# Altium footprint library __ui.PcbLib: 79 footprints (part 1 of 5)
Each footprint in its own frame and in the unit in brackets; x right, y up, seen from the top. Pads: shape width x height; smd on the part's side, far side on the other; paste and mask are expansions set on the pad; w line width, h text height; cw(c..) or ccw(c..) is an arc to the next point about the centre after c.
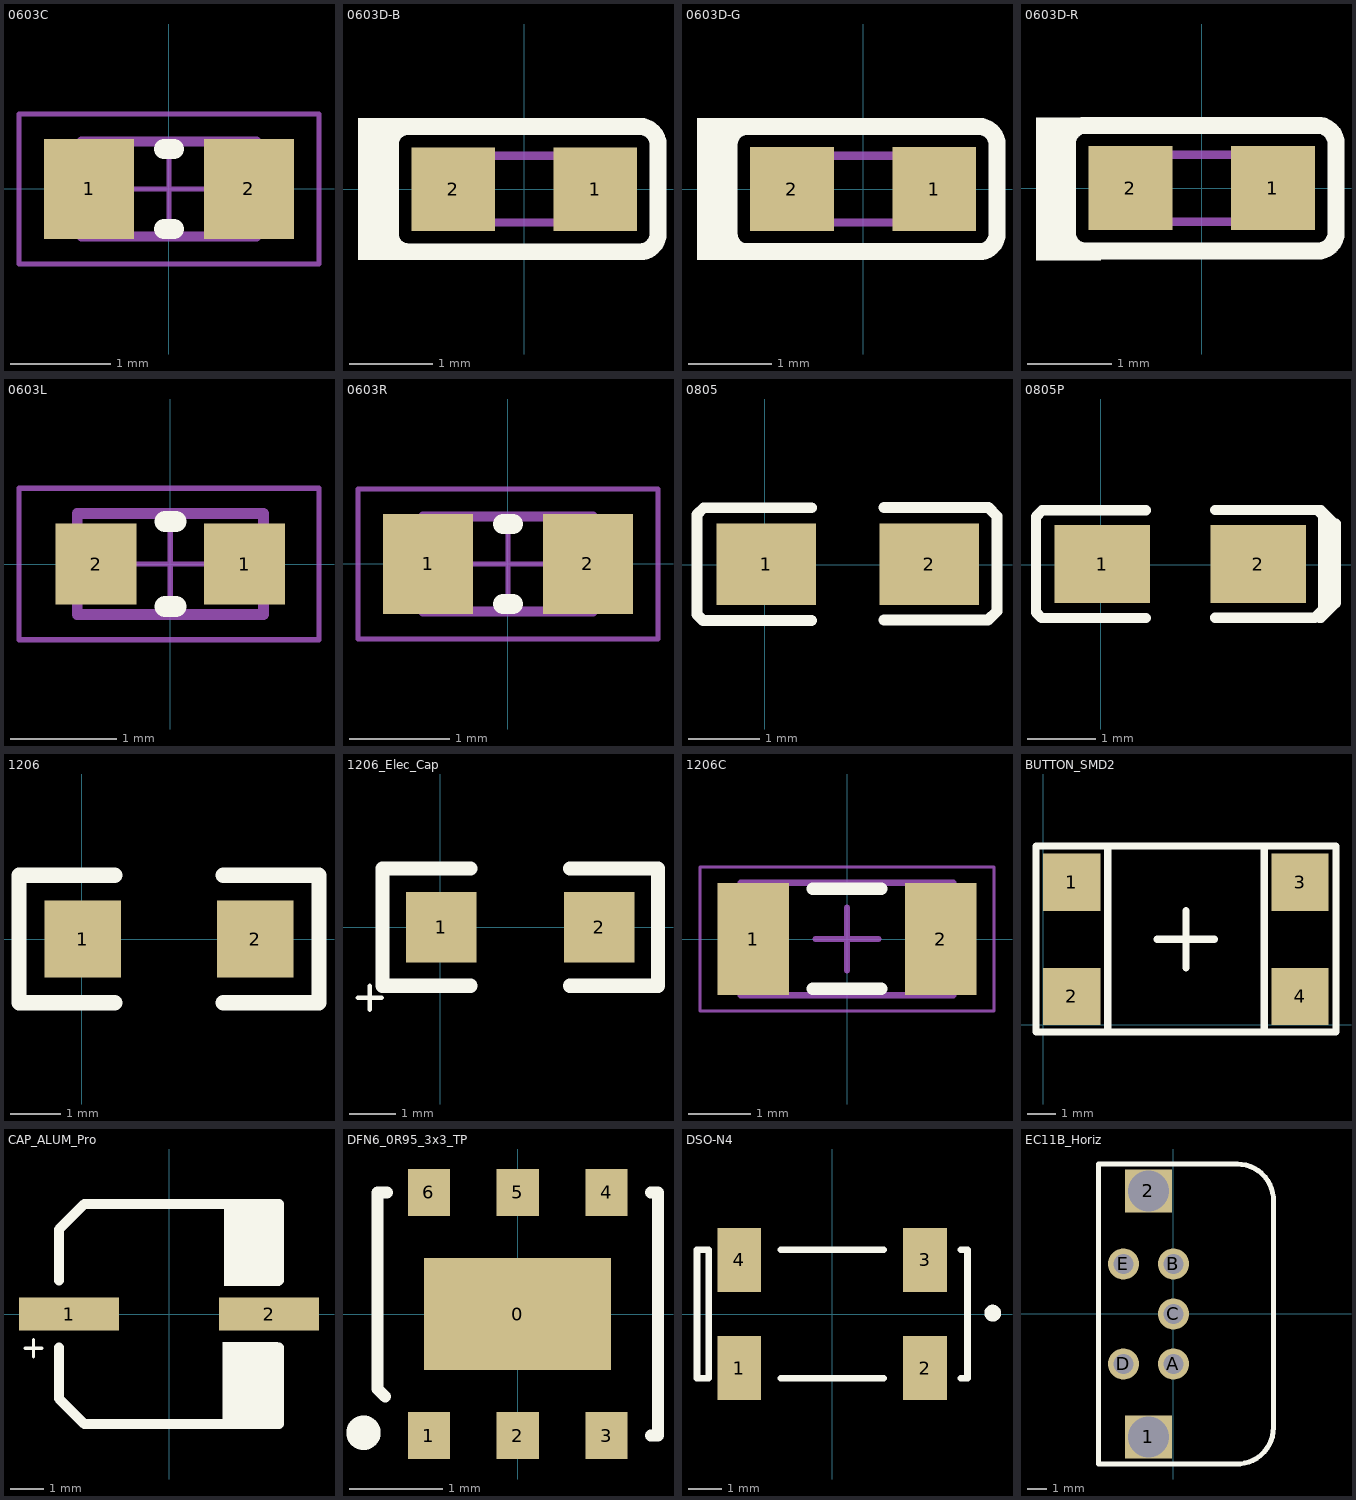
[diagram p0: the footprints below, top view; thin cyan lines are the x and y axes]

## 0603C [mm] "Chip Capacitor, Body 1.6x0.8mm, Height 1.0mm, IPC Medium Density"
height 1
pads (2):
  rect 0.9x1 smd: 1(-0.8,0) 2(0.8,0)
Top Overlay:
  lines w0.2: -0.05,-0.4 0.05,-0.4 ; -0.05,0.4 0.05,0.4
Mechanical 13:
  lines w0.1: -0.875,-0.475 0.875,-0.475 0.875,0.475 -0.875,0.475 -0.875,-0.475
Mechanical 15:
  lines w0.05: -0.475,0 0.475,0 ; 0,-0.475 0,0.475 ; -1.5,-0.75 1.5,-0.75 1.5,0.75 -1.5,0.75 -1.5,-0.75
3D body: height 1, standoff 0, extent 0.525,-0.475 0.875,0.475
3D body: height 1, standoff 0, extent -0.875,-0.475 -0.525,0.475
3D body: height 1, standoff 0, extent -0.525,-0.475 0.525,0.475

## 0603D-B [mm] "LED, SMT, Body 1.6 x 0.8 mm, 0.25mm Thickness"
height 0.25
pads (2):
  rect 1x1 smd paste+0 mask+0: 1(0.85,0) 2(-0.85,0)
Top Overlay:
  rectangle: -1.797,0.667 -1.147,0.852
  rectangle: -1.988,-0.849 -1.531,0.852
  rectangle: -1.797,-0.849 -1.213,-0.684
  lines w0.203: -1.602,-0.533 ccw(c-1.386,-0.533) -1.386,-0.749 1.386,-0.749 ccw(c1.386,-0.533) 1.602,-0.533 1.602,0.533 ccw(c1.386,0.533) 1.386,0.749 -1.386,0.749 ccw(c-1.386,0.533) -1.602,0.533 -1.602,-0.533
Mechanical 7:
  lines w0.1: -0.8,-0.4 -0.8,0.4 0.8,0.4 0.8,-0.4 -0.8,-0.4
3D body: height 0.1, standoff 0, extent -0.8,-0.4 0.8,0.4
3D body: height 0.2, standoff 0.15, extent -0.254,-0.254 0.254,0.254
3D body: height 0.25, standoff 0.1, extent -0.6,-0.4 0.6,0.4

## 0603D-G [mm] "LED, SMT, Body 1.6 x 0.8 mm, 0.25mm Thickness"
height 0.25
pads (2):
  rect 1x1 smd paste+0 mask+0: 1(0.85,0) 2(-0.85,0)
Top Overlay:
  rectangle: -1.794,0.666 -1.144,0.852
  rectangle: -1.985,-0.85 -1.528,0.852
  rectangle: -1.794,-0.85 -1.21,-0.685
  lines w0.203: -1.602,-0.533 ccw(c-1.386,-0.533) -1.386,-0.749 1.386,-0.749 ccw(c1.386,-0.533) 1.602,-0.533 1.602,0.533 ccw(c1.386,0.533) 1.386,0.749 -1.386,0.749 ccw(c-1.386,0.533) -1.602,0.533 -1.602,-0.533
Mechanical 7:
  lines w0.1: -0.8,-0.4 -0.8,0.4 0.8,0.4 0.8,-0.4 -0.8,-0.4
3D body: height 0.1, standoff 0, extent -0.8,-0.4 0.8,0.4
3D body: height 0.2, standoff 0.15, extent -0.254,-0.254 0.254,0.254
3D body: height 0.25, standoff 0.1, extent -0.6,-0.4 0.6,0.4

## 0603D-R [mm] "LED, SMT, Body 1.6 x 0.8 mm, 0.25mm Thickness"
height 0.25
pads (2):
  rect 1x1 smd paste+0 mask+0: 1(0.85,0) 2(-0.85,0)
Top Overlay:
  rectangle: -1.785,0.656 -1.134,0.841
  rectangle: -1.975,-0.861 -1.518,0.841
  rectangle: -1.785,-0.861 -1.2,-0.696
  lines w0.203: -1.602,-0.533 ccw(c-1.386,-0.533) -1.386,-0.749 1.386,-0.749 ccw(c1.386,-0.533) 1.602,-0.533 1.602,0.533 ccw(c1.386,0.533) 1.386,0.749 -1.386,0.749 ccw(c-1.386,0.533) -1.602,0.533 -1.602,-0.533
Mechanical 7:
  lines w0.1: -0.8,-0.4 -0.8,0.4 0.8,0.4 0.8,-0.4 -0.8,-0.4
3D body: height 0.1, standoff 0, extent -0.8,-0.4 0.8,0.4
3D body: height 0.2, standoff 0.15, extent -0.254,-0.254 0.254,0.254
3D body: height 0.25, standoff 0.1, extent -0.6,-0.4 0.6,0.4

## 0603L [mil] "Bead 0603L"
height 39.37
pads (2):
  rect 30x30 smd: 1(27.5,0) 2(-27.5,0)
Top Overlay:
  lines w7.87: -1.97,-15.75 1.97,-15.75 -1.97,-15.74 ; -1.97,15.75 1.97,15.75 -1.97,15.75
Mechanical 13:
  lines w3.94: -34.45,-18.7 34.45,-18.7 34.45,18.7 -34.45,18.7 -34.45,-18.7
Mechanical 15:
  lines w1.97: -18.7,0 18.7,0 ; 0,-18.7 0,18.7 ; -56,-28 -56,28 55,28 55,-28 -56,-28
3D body: height 23.62, standoff 0, extent 20.67,-18.7 34.45,18.7
3D body: height 23.62, standoff 0, extent -34.45,-18.7 -20.67,18.7
3D body: height 23.62, standoff 0, extent -20.67,-18.7 20.67,18.7

## 0603R [mm] "Chip Resistor, Body 1.6x0.8mm, IPC Medium Density"
height 0.6
pads (2):
  rect 0.9x1 smd: 1(-0.8,0) 2(0.8,0)
Top Overlay:
  lines w0.2: -0.05,-0.4 0.05,-0.4 ; -0.05,0.4 0.05,0.4
Mechanical 13:
  lines w0.1: -0.85,-0.475 -0.85,0.475 0.85,0.475 0.85,-0.475 -0.85,-0.475
Mechanical 15:
  lines w0.05: -0.475,0 0.475,0 ; 0,-0.475 0,0.475 ; -1.5,-0.75 -1.5,0.75 1.5,0.75 1.5,-0.75 -1.5,-0.75
3D body: height 0.6, standoff 0, extent 0.581,-0.474 0.85,0.475
3D body: height 0.6, standoff 0, extent -0.58,-0.474 0.581,0.475
3D body: height 0.6, standoff 0, extent -0.849,-0.474 -0.58,0.475

## 0805 [mil]
pads (2):
  rect 55x45 smd: 1(0.86,0.22) 2(90.86,0.22)
Top Overlay:
  lines w6: 25.86,-30.87 -34.13,-30.87 -37.37,-27.63 -37.37,27.63 -33.68,31.32 25.86,31.32 ; 65.86,-30.68 123.44,-30.68 128.33,-25.79 128.33,26.68 123.55,31.46 65.86,31.46

## 0805P [mil]
pads (2):
  rect 55x45 smd: 1(0.86,0.22) 2(90.86,0.22)
Top Overlay:
  lines w6: 25.86,-30.87 -34.13,-30.87 -37.37,-27.63 -37.37,27.63 -33.68,31.32 25.86,31.32 ; 65.86,-30.68 123.44,-30.68 128.33,-25.79 128.33,28.03 124.9,31.46 65.86,31.46 ; 126.17,-30.6 126.82,-30.6 133.19,-24.23 133.19,25.01 126.86,31.34 ; 134.06,-23.63 135.64,-22.05 135.64,23.46

## 1206 [mil]
pads (2):
  rect 60x60 smd: 1(0.86,0.22) 2(135.86,0.22)
Top Overlay:
  lines w12: 25.86,-49.78 -49.14,-49.78 -49.14,50.22 25.86,50.22 ; 110.86,-49.78 185.86,-49.78 185.86,50.22 110.86,50.22

## 1206_Elec_Cap [mil]
pads (2):
  rect 60x60 smd: 1(0.86,0.22) 2(135.86,0.22)
Top Overlay:
  lines w4: -70,-60 -50,-60 ; -60,-70 -60,-50
  lines w12: -49.14,-49.78 25.86,-49.78 ; -49.14,-49.14 -49.14,50.22 25.86,50.22 ; 110.86,-49.78 185.86,-49.78 185.86,50.22 110.86,50.22

## 1206C [mm] "Chip Capacitor, Body 3.2x1.6mm, Height 1mm, IPC Medium Density"
height 1
pads (2):
  rect 1.15x1.8 smd: 1(-1.5,0) 2(1.5,0)
Top Overlay:
  lines w0.2: -0.55,-0.8 0.55,-0.8 ; -0.55,0.8 0.55,0.8
Mechanical 13:
  lines w0.1: -1.7,-0.9 -1.7,0.9 1.7,0.9 1.7,-0.9 -1.7,-0.9
Mechanical 15:
  lines w0.05: -2.35,-1.15 -2.35,1.15 2.35,1.15 2.35,-1.15 -2.35,-1.15
  lines w0.1: -0.5,0 0.5,0 ; 0,-0.5 0,0.5
3D body: height 1, standoff 0, extent -1.2,-0.9 1.2,0.9
3D body: height 1, standoff 0, extent -1.7,-0.9 -1.2,0.9
3D body: height 1, standoff 0, extent 1.2,-0.9 1.7,0.9

## BUTTON_SMD2 [mm]
pads (4):
  rect 2x2 smd: 1(1,5) 2(1,1) 3(9,5) 4(9,1)
Top Overlay:
  lines w0.254: 2.261,-0.229 2.261,6.248 ; 4,3 6,3 ; 5,2 5,4 ; 7.747,-0.254 7.747,6.223 ; -0.254,-0.254 -0.254,6.274 10.262,6.274 10.262,-0.254 -0.254,-0.254

## CAP_ALUM_Pro [mm]
pads (2):
  rect 3x1 smd: 1(-3,0) 2(3,0)
Top Overlay:
  rectangle: 1.651,0.838 3.327,3.302
  rectangle: 1.6,-3.302 3.277,-0.838
  lines w0.102: -4.318,-1.024 -3.81,-1.024 ; -4.064,-1.278 -4.064,-0.77
  lines w0.305: -3.3,-1 -3.3,-2.54 -2.54,-3.3 3.3,-3.3 3.3,-1 ; -3.3,1 -3.3,2.54 -2.54,3.3 3.3,3.3 3.3,1

## DFN6_0R95_3x3_TP [mm] "500 mA low quiescent current and low noise voltage regulator"
height 1
pads (7):
  rect 2x1.2 smd: 0(0,0)
  rect 0.45x0.5 smd: 1(-0.95,-1.3) 2(0,-1.3) 3(0.95,-1.3) 4(0.95,1.3) 5(0,1.3) 6(-0.95,1.3)
Top Overlay:
  circle w0.25: c-1.649,-1.27 r0.059
  lines w0.127: -1.417,-0.883 -1.5,-0.8 -1.5,1.3 -1.397,1.3 ; 1.422,-1.3 1.5,-1.3 1.5,1.3 1.422,1.3
3D body: height 1, standoff 0.05, extent -1.5,-1.5 1.5,1.5

## DSO-N4 [mm] "Crystal, SM; 4 Leads; Body 8 x 3.8 x 2.5 mm (LxWxH)"
height 2.5
pads (4):
  rect 1.3x1.9 smd: 1(-2.75,-1.6) 2(2.75,-1.6) 3(2.75,1.6) 4(-2.75,1.6)
Top Overlay:
  circle w0.25: c4.75,0.025 r0.125
  lines w0.2: -3.85,-1.9 -3.65,-1.9 -3.65,1.9 -3.85,1.9 ; -3.8,-1.9 -4,-1.9 -4,1.9 -3.8,1.9 ; -1.524,-1.9 1.524,-1.9 ; -1.524,1.9 1.524,1.9 ; 3.8,-1.9 4,-1.9 4,1.9 3.8,1.9

## EC11B_Horiz [mil] "Alps Rotary Encoder"
pads (7):
  rect 94.49x86.61 hole 82.68: 1(-50,-246.06) 2(-50,246.06)
  round 62 hole 40: A(0,-100) B(0,100) C(0,0) D(-100,-100) E(-100,100)
Top Overlay:
  lines w10: 124,-300 ccw(c127.22,-227.37) 199.92,-226.8 ; 126.8,299.92 cw(c127.37,227.22) 200,224 ; 128,300 -150,300 -150,-300 130,-300 ; 200,-230 200,228